# EAGLE library part 10X2_SAMTEC_M (library AMBZxxx-EV)
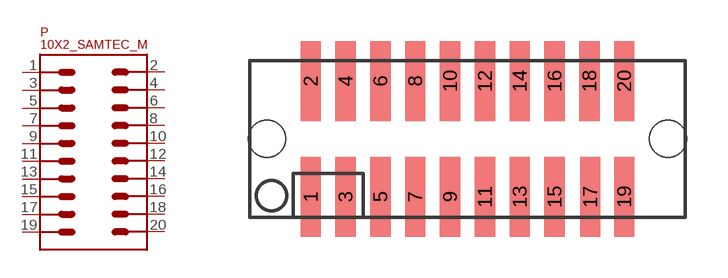
[diagram p0: symbol with the pads of 10X2_SAMTEC_M; footprint 10X2_SAMTEC_M]

Designator prefix P

## 10X2_SAMTEC_M  [10X2_SAMTEC_M]
1  1
2  2
3  3
4  4
5  5
6  6
7  7
8  8
9  9
10  10
11  11
12  12
13  13
14  14
15  15
16  16
17  17
18  18
19  19
20  20

## Footprint 10X2_SAMTEC_M (pad centres in mm)
smd 0.74 x 2.92: 1 -5.715,-2.113; 2 -5.715,2.113; 3 -4.445,-2.115; 4 -4.445,2.113; 5 -3.175,-2.115; 6 -3.175,2.113; 7 -1.905,-2.115; 8 -1.905,2.113; 9 -0.635,-2.115; 10 -0.635,2.113; 11 0.635,-2.115; 12 0.635,2.113; 13 1.905,-2.115; 14 1.905,2.113; 15 3.175,-2.115; 16 3.175,2.113; 17 4.477,-2.115; 18 4.445,2.113; 19 5.715,-2.115; 20 5.715,2.113
hole 1.35 at -7.305,0
hole 1.35 at 7.305,0